# EAGLE library part CONNECTOR-10 (library HyTechDevices)
Mini-Fit Junior connector 10 pole Source: http://www.molex.com
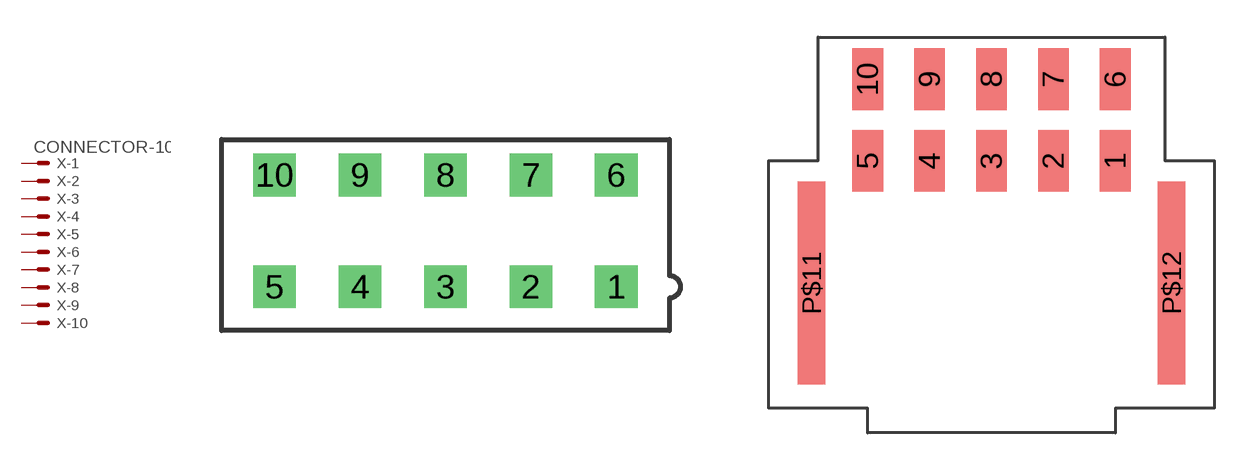
[diagram p26: symbol with the pads of MINIFIT_5566-10; footprints MINIFIT_5566-10, NANO-FIT_RIGHT_ANGLE-10-SURFACE]

Designator prefix X; gates -1=MV -2=M -3=M -4=M -5=M -6=M -7=M -8=M -9=M -10=M

## CONNECTOR-10 (OC_FARNELL: unknown; OC_NEWARK: unknown)  [MINIFIT_5566-10]
1  -1:S  pas
2  -2:S  pas
3  -3:S  pas
4  -4:S  pas
5  -5:S  pas
6  -6:S  pas
7  -7:S  pas
8  -8:S  pas
9  -9:S  pas
10  -10:S  pas

## CONNECTOR-10NANO-FIT_RIGHT_ANGLE-SURFACE  [NANO-FIT_RIGHT_ANGLE-10-SURFACE]
Pads as for MINIFIT_5566-10

## CONNECTOR-10NANO-FIT_VERTICAL-10  [NANO-FIT_VERTICAL-10]
P$1  -1:S  pas
P$2  -2:S  pas
P$3  -3:S  pas
P$4  -4:S  pas
P$5  -5:S  pas
P$6  -6:S  pas
P$7  -7:S  pas
P$8  -8:S  pas
P$9  -9:S  pas
P$10  -10:S  pas

## CONNECTOR-10DURACLIK_RIGHT_ANGLE-10  [DURACLIK_RIGHT_ANGLE-10]
Pads as for MINIFIT_5566-10

## CONNECTOR-10DURACLIK_VERTICAL-10  [DURACLIK_VERTICAL-10]
Pads as for MINIFIT_5566-10

## CONNECTOR-10MX150L_VERTICAL-10  [MX150L_VERTICAL-10]
Pads as for MINIFIT_5566-10

## Footprint MINIFIT_5566-10 (pad centres in mm)
Mini-Fit Junior connector 10 pole Source: http://www.molex.com
drill 1.4 square: 1 8.4,-2.75; 2 4.2,-2.75; 3 0,-2.75; 4 -4.2,-2.75; 5 -8.4,-2.75; 6 8.4,2.75; 7 4.2,2.75; 8 0,2.75; 9 -4.2,2.75; 10 -8.4,2.75

## Footprint NANO-FIT_RIGHT_ANGLE-10-SURFACE (pad centres in mm)
smd 1.24 x 2.5: 1 5,0; 2 2.5,0; 3 0,0; 4 -2.5,0; 5 -5,0; 6 5,3.3; 7 2.5,3.3; 8 0,3.3; 9 -2.5,3.3; 10 -5,3.3
smd 1.1 x 8.2: P$11 -7.27,-4.93; P$12 7.27,-4.93

## Footprint NANO-FIT_VERTICAL-10 (pad centres in mm)
drill 1.2: P$1 -5,0; P$2 -2.5,0; P$3 0,0; P$4 2.5,0; P$5 5,0; P$6 -5,2.5; P$7 -2.5,2.5; P$8 0,2.5; P$9 2.5,2.5; P$10 5,2.5
hole 1.3 at -1.27,-1.34

## Footprint DURACLIK_RIGHT_ANGLE-10 (pad centres in mm)
smd 1.2 x 3.2: 1 9,8.13; 2 7,8.13; 3 5,8.13; 4 3,8.13; 5 1,8.13; 6 -1,8.13; 7 -3,8.13; 8 -5,8.13; 9 -7,8.13; 10 -9,8.13
smd 1.7 x 5.3: P$1 11.55,2.65; P$2 -11.55,2.65

## Footprint DURACLIK_VERTICAL-10 (pad centres in mm)
smd 1.2 x 2.2: 1 9,7.68; 2 7,7.68; 3 5,7.68; 4 3,7.68; 5 1,7.68; 6 -1,7.68; 7 -3,7.68; 8 -5,7.68; 9 -7,7.68; 10 -9,7.68
smd 2 x 4.2: P$1 12.6,2.1; P$2 -12.6,2.1

## Footprint MX150L_VERTICAL-10 (pad centres in mm)
19428-0014 MX150L™ Vertical PCB Header
drill 1.778 pad 3.81: 1 -11.684,2.997; 2 -5.842,2.997; 3 0,2.997; 4 5.842,2.997; 5 11.684,2.997; 6 -11.684,-2.997; 7 -5.842,-2.997; 8 0,-2.997; 9 5.842,-2.997; 10 11.684,-2.997
hole 4.191 at -27.292,0
hole 4.191 at 27.292,0
hole 1.524 at -17.526,2.921